# Altium footprint library PcbLib1 .PcbLib: 30 footprints (part 1 of 2)
Each footprint in its own frame and in the unit in brackets; x right, y up, seen from the top. Pads: shape width x height; smd on the part's side, far side on the other; paste and mask are expansions set on the pad; w line width, h text height; cw(c..) or ccw(c..) is an arc to the next point about the centre after c.
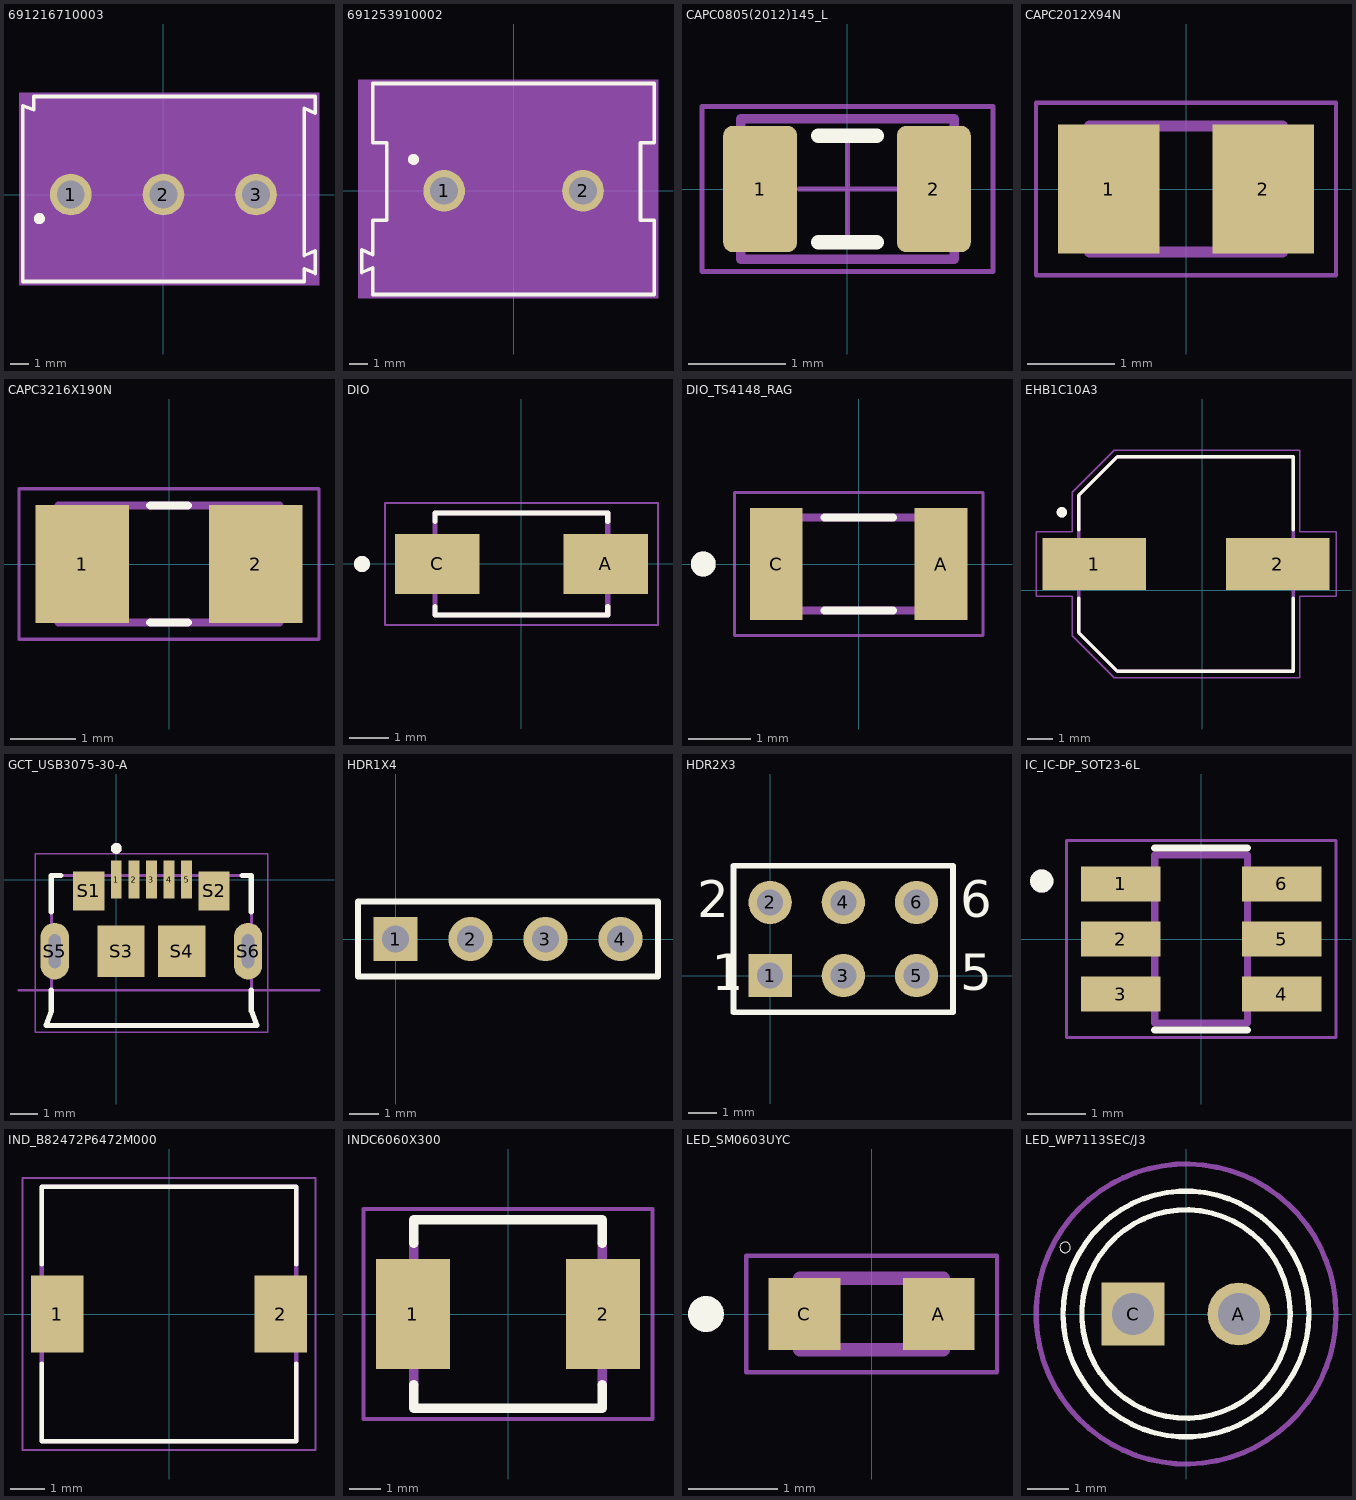
[diagram p0: the footprints below, top view; thin cyan lines are the x and y axes]

## 691216710003 [mm]
pads (3):
  round 2.25 hole 1.5: 1(-5,0) 2(0,0) 3(5,0)
Top Overlay:
  circle w0.4: c-6.7,-1.3 r0.1
  lines w0.2: -7.6,-4.7 -7.6,4.8 -7,4.59 -7,5.3 8.2,5.3 8.2,4.39 7.6,4.65 7.6,-3.29 8.2,-3.03 8.2,-4.26 7.6,-4 7.6,-4.7 -7.6,-4.7
Mechanical 13:
  lines w0.1: -7.5,-4.6 -7.5,4.7 -6.9,4.49 -6.9,5.2 8.1,5.2 8.1,4.49 7.5,4.75 7.5,-3.39 8.1,-3.13 8.1,-4.16 7.5,-3.9 7.5,-4.6 -7.5,-4.6
Mechanical 15:
  region: 8.4,-4.9 -7.8,-4.9 -7.8,5.5 8.4,5.5
3D body "step_temp.STEP": height 0, standoff -9.8, extent -15.6,-13.8 0,3.5

## 691253910002 [mm]
pads (2):
  round 2.25 hole 1.5: 1(-3.75,0) 2(3.75,0)
Top Overlay:
  circle w0.4: c-5.4,1.7 r0.1
  lines w0.2: -8.2,-4.41 -8.2,-3.18 -7.6,-3.44 -7.6,-1.59 -6.85,-1.59 -6.85,2.59 -7.6,2.59 -7.6,5.8 7.6,5.8 7.6,2.59 6.85,2.59 6.85,-1.59 7.6,-1.59 7.6,-5.6 -7.6,-5.6 -7.6,-4.15 -8.2,-4.41
Mechanical 13:
  lines w0.1: -8.1,-4.31 -7.5,-4.05 -7.5,-5.5 7.5,-5.5 7.5,-1.69 6.75,-1.69 6.75,2.69 7.5,2.69 7.5,5.7 -7.5,5.7 -7.5,2.69 -6.75,2.69 -6.75,-1.69 -7.5,-1.69 -7.5,-3.54 -8.1,-3.28 -8.1,-4.31
Mechanical 15:
  region: 7.8,-5.8 -8.4,-5.8 -8.4,6 7.8,6
3D body "step_temp.STEP": height 0.6, standoff -15, extent 0,-18 11.2,4

## CAPC0805(2012)145_L [mm] "Chip Capacitor, Body 2.0x1.2mm, Height 1.45mm, IPC High Density"
height 1.45
pads (2):
  rrect25% 0.76x1.3 smd: 1(-0.9,0) 2(0.89,0)
Top Overlay:
  lines w0.15: -0.3,-0.55 0.3,-0.55 ; -0.3,0.55 0.3,0.55
Top Courtyard:
  lines w0.05: -0.5,0 0.5,0 ; 0,-0.5 0,0.5 ; -1.5,-0.85 1.5,-0.85 1.5,0.85 -1.5,0.85 -1.5,-0.85
Top Assembly:
  lines w0.1: -1.1,-0.725 -1.1,0.725 1.1,0.725 1.1,-0.725 -1.1,-0.725
Top Designator:
  text ".Designator" at -1.27,-0.127 h0.6
3D body "CAPC2012X145N EIA 0805.STEP": height 1.45, standoff 0, extent -1,-0.6 1,0.6

## CAPC2012X94N [mm]
pads (2):
  rect 1.16x1.47 smd: 1(-0.88,0) 2(0.88,0)
Mechanical 13:
  lines w0.127: -1.1,-0.72 -1.1,0.72 1.1,0.72 1.1,-0.72 -1.1,-0.72
Mechanical 15:
  lines w0.05: -1.713,-0.983 -1.713,0.983 1.713,0.983 1.713,-0.983 -1.713,-0.983
3D body "step_temp.STEP": height 0.94, standoff 0, extent -1.005,-0.625 1.005,0.625

## CAPC3216X190N [mm]
pads (2):
  rect 1.44x1.82 smd: 1(-1.336,0) 2(1.336,0)
Top Overlay:
  lines w0.127: -0.29,-0.9 0.29,-0.9 ; -0.29,0.9 0.29,0.9
Mechanical 13:
  lines w0.127: -1.7,-0.9 1.7,-0.9 1.7,0.9 -1.7,0.9 -1.7,-0.9
Mechanical 15:
  lines w0.05: -2.308,-1.158 2.308,-1.158 2.308,1.158 -2.308,1.158 -2.308,-1.158
3D body "step_temp.STEP": height 1.9, standoff 0, extent -1.6,-0.8 1.6,0.8

## DIO [mm]
height 2.5
pads (2):
  rect 2.12x1.5 smd: A(2.115,0) C(-2.115,0)
Top Overlay:
  circle w0.2: c-4,0 r0.1
  lines w0.127: -2.165,-1.07 -2.165,-1.28 2.165,-1.28 2.165,-1.07 ; -2.165,1.07 -2.165,1.28 2.165,1.28 2.165,1.07
Mechanical 13:
  circle w0.2: c-4,0 r0.1
  lines w0.127: -2.165,-1.28 -2.165,1.28 2.165,1.28 2.165,-1.28 -2.165,-1.28
Mechanical 15:
  lines w0.05: -3.425,-1.53 -3.425,1.53 3.425,1.53 3.425,-1.53 -3.425,-1.53
3D body "step_temp.STEP": height 2.5, standoff 0, extent -2.57,-1.28 2.57,1.28

## DIO_TS4148_RAG [mm]
height 1.7
pads (2):
  rect 0.85x1.8 smd: A(1.325,0) C(-1.325,0)
Top Overlay:
  circle w0.2: c-2.5,0 r0.1
  lines w0.127: -0.55,-0.75 0.55,-0.75 ; -0.55,0.75 0.55,0.75
Mechanical 13:
  circle w0.2: c-2.5,0 r0.1
  lines w0.127: -1.6,-0.75 -1.6,0.75 1.6,0.75 1.6,-0.75 -1.6,-0.75
Mechanical 15:
  lines w0.05: -2,-1.15 -2,1.15 2,1.15 2,-1.15 -2,-1.15
3D body "step_temp.STEP": height 0.85, standoff 0, extent -1.6,-0.75 1.6,0.75

## EHB1C10A3 [mm]
pads (2):
  rect 4x2 smd: 1(-4.185,1.016) 2(2.915,1.016)
Top Overlay:
  circle w0.2: c-5.435,3.016 r0.1
  lines w0.127: -4.785,-0.304 -4.785,-1.634 -3.285,-3.134 3.515,-3.134 3.515,-0.304 ; -4.785,2.336 -4.785,3.666 -3.285,5.166 3.515,5.166 3.515,2.336
Mechanical 13:
  circle w0.2: c-5.435,3.016 r0.1
  lines w0.127: -4.785,-1.634 -3.285,-3.134 3.515,-3.134 3.515,5.166 -3.285,5.166 -4.785,3.666 -4.785,-1.634
Mechanical 15:
  lines w0.05: -6.435,-0.234 -6.435,2.266 -5.035,2.266 -5.035,3.791 -3.41,5.416 3.765,5.416 3.765,2.266 5.165,2.266 5.165,-0.234 3.765,-0.234 3.765,-3.384 -3.41,-3.384 -5.035,-1.759 -5.035,-0.234 -6.435,-0.234
3D body "step_temp.STEP": height 10.2, standoff 0, extent -5.485,-3.134 4.215,5.166

## GCT_USB3075-30-A [mm]
height 2.66
pads (11):
  rect 0.4x1.4 smd: 1(0,0) 2(0.65,0) 3(1.3,0) 4(1.95,0) 5(2.6,0)
  rect 1.15x1.45 smd: S1(-1.02,-0.42) S2(3.62,-0.42)
  rect 1.75x1.9 smd: S3(0.175,-2.65) S4(2.425,-2.65)
  oval 1.05x2.1 hole 0.45 slot 1.25 at 90 deg: S5(-2.275,-2.65) S6(4.875,-2.65)
Top Overlay:
  circle w0.2: c0,1.15 r0.1
  lines w0.2: -2.4,-4.1 -2.4,-4.86 -2.6,-5.4 5.2,-5.4 5,-4.86 5,-4.1 ; -2.4,-1.2 -2.4,0.15 -2.05,0.15 ; 4.65,0.15 5,0.15 5,-1.2
Mechanical 13:
  circle w0.2: c0,1.15 r0.1
  lines w0.1: -3.6,-4.1 7.5,-4.1 ; -2.6,-5.4 5.2,-5.4 5,-4.86 5,0.15 -2.4,0.15 -2.4,-4.86 -2.6,-5.4
Mechanical 15:
  lines w0.05: -3,-5.65 -3,0.95 5.6,0.95 5.6,-5.65 -3,-5.65
3D body "step_temp.STEP": height 2.7, standoff -1, extent -2.63,-4.699 5.17,0.851

## HDR1X4 [mm] "Connector; Header; 4 Position"
pads (4):
  rect 1.5x1.5 hole 0.9: 1(0,0)
  round 1.5 hole 0.9: 2(2.54,0) 3(5.08,0) 4(7.62,0)
Top Overlay:
  lines w0.2: -1.27,-1.27 8.89,-1.27 8.89,1.27 -1.27,1.27 -1.27,-1.27

## HDR2X3 [mm] "Connector; Header; 3x2 Position"
pads (6):
  rect 1.5x1.5 hole 0.9: 1(0,0)
  round 1.5 hole 0.9: 2(0,2.54) 3(2.54,0) 4(2.54,2.54) 5(5.08,0) 6(5.08,2.54)
Top Overlay:
  lines w0.2: 1.482,-1.27 6.35,-1.27 ; 6.35,-1.27 -1.27,-1.27 -1.27,3.81 6.35,3.81 6.35,-1.27
  text "1" at -2.032,-0.508 h1.27
  text "2" at -2.54,2.032 h1.27
  text "5" at 6.604,-0.508 h1.27
  text "6" at 6.604,2.032 h1.27

## IC_IC-DP_SOT23-6L [mm]
height 1.3
pads (6):
  rect 1.375x0.6 smd: 1(-1.389,0.95) 2(-1.389,0) 3(-1.389,-0.95) 4(1.389,-0.95) 5(1.389,0) 6(1.389,0.95)
Top Overlay:
  circle w0.2: c-2.75,1 r0.1
  lines w0.127: -0.8,-1.57 0.8,-1.57 ; -0.8,1.57 0.8,1.57
Mechanical 13:
  circle w0.2: c-2.75,1 r0.1
  lines w0.127: -0.8,-1.45 -0.8,1.45 0.8,1.45 0.8,-1.45 -0.8,-1.45
Mechanical 15:
  lines w0.05: -2.326,-1.7 2.326,-1.7 2.326,1.7 -2.326,1.7 -2.326,-1.7
3D body "step_temp.STEP": height 1.3, standoff 0, extent -1.4,-1.45 1.4,1.45

## IND_B82472P6472M000 [mm]
height 4.5
pads (2):
  rect 1.5x2.2 smd: 1(-3.2,0) 2(3.2,0)
Top Overlay:
  lines w0.127: -3.65,-1.42 -3.65,-3.65 3.65,-3.65 3.65,-1.42 ; -3.65,1.42 -3.65,3.65 3.65,3.65 3.65,1.42
Mechanical 13:
  lines w0.127: -3.65,-3.65 -3.65,3.65 3.65,3.65 3.65,-3.65 -3.65,-3.65
Mechanical 15:
  lines w0.05: -4.2,-3.9 -4.2,3.9 4.2,3.9 4.2,-3.9 -4.2,-3.9

## INDC6060X300 [mm]
pads (2):
  rect 2.35x3.5 smd: 1(-3.025,0) 2(3.025,0)
Top Overlay:
  lines w0.305: -3,-2.25 -3,-3 3,-3 3,-2.25 ; -3,2.25 -3,3 3,3 3,2.25
Mechanical 13:
  region: 3.5,-1.252 3.004,-1.252 3.004,1.25 3.5,1.25
  region: -3,-1.25 -3.5,-1.25 -3.5,1.25 -3,1.25
  lines w0.305: -3,-2.25 -3,2.25 ; 3,-2.25 3,2.25
Mechanical 15:
  lines w0.127: -4.6,-3.35 -4.6,3.35 4.6,3.35 4.6,-3.35 -4.6,-3.35
3D body "step_temp.STEP": height 3, standoff 0, extent -3.55,-3 3.55,3

## LED_SM0603UYC [mm]
height 0.6
pads (2):
  rect 0.8x0.8 smd: A(0.75,0) C(-0.75,0)
Top Overlay:
  circle w0.2: c-1.85,0 r0.1
Mechanical 13:
  circle w0.2: c-1.85,0 r0.1
  lines w0.152: -0.8,-0.4 0.8,-0.4 0.8,0.4 -0.8,0.4 -0.8,-0.4
Mechanical 15:
  lines w0.05: -1.4,-0.65 -1.4,0.65 1.4,0.65 1.4,-0.65 -1.4,-0.65
3D body "step_temp.STEP": height 0.6, standoff 0, extent -0.8,-0.4 0.8,0.4

## LED_WP7113SEC/J3 [mm]
pads (2):
  round 1.508 hole 1: A(1.27,0)
  rect 1.508x1.508 / inner round 1.508 / far side rect 1.508x1.508 hole 1: C(-1.27,0)
Top Overlay:
  circle w0: c-2.9,1.6 r0.127
  circle w0.127: c0,0 r2.5
  circle w0.127: c0,0 r2.95
Mechanical 15:
  circle w0.127: c0,0 r3.6
3D body "step_temp.STEP": height 9.6, standoff -26, extent -2.5,-2.95 2.95,2.95